# Altium footprint library NG_Integrated.PcbLib: 8 footprints
Each footprint in its own frame and in the unit in brackets; x right, y up, seen from the top. Pads: shape width x height; smd on the part's side, far side on the other; paste and mask are expansions set on the pad; w line width, h text height; cw(c..) or ccw(c..) is an arc to the next point about the centre after c.
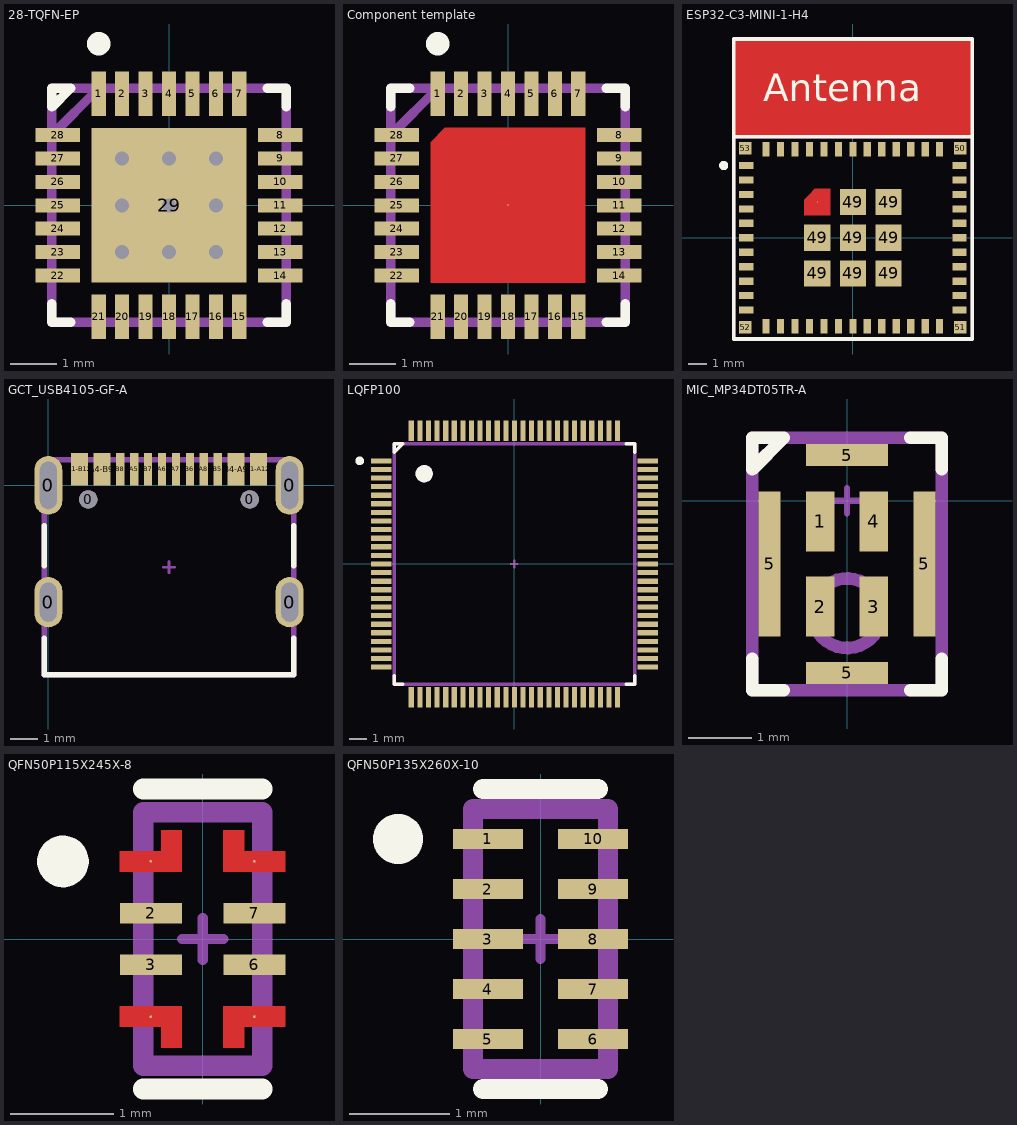
[diagram p0: the footprints below, top view; thin cyan lines are the x and y axes]

## 28-TQFN-EP [mm] "28 pin flat no-leads package with exposed pad"
height 0.8
pads (29):
  rect 0.3x0.95 smd paste-0.025: 1(-1.5,2.38) 2(-1,2.38) 3(-0.5,2.38) 4(0,2.38) 5(0.5,2.38) 6(1,2.38) 7(1.5,2.38) 15(1.5,-2.38) 16(1,-2.38) 17(0.5,-2.38) 18(0,-2.38) 19(-0.5,-2.38) 20(-1,-2.38) 21(-1.5,-2.38)
  rect 0.95x0.3 smd paste-0.025: 8(2.38,1.5) 9(2.38,1) 10(2.38,0.5) 11(2.38,0) 12(2.38,-0.5) 13(2.38,-1) 14(2.38,-1.5) 22(-2.38,-1.5) 23(-2.38,-1) 24(-2.38,-0.5) 25(-2.38,0) 26(-2.38,0.5) 27(-2.38,1) 28(-2.38,1.5)
  rect 3.3x3.3 smd paste-2539.97 mask+0.102: 29(0,0)
via 0,0 diameter 0.6 hole 0.3
via -1,0 diameter 0.6 hole 0.3
via 0,1 diameter 0.6 hole 0.3
via 0,-1 diameter 0.6 hole 0.3
via 1,1 diameter 0.6 hole 0.3
via 1,-1 diameter 0.6 hole 0.3
via -1,1 diameter 0.6 hole 0.3
via -1,-1 diameter 0.6 hole 0.3
via 1,0 diameter 0.6 hole 0.3
Top Overlay:
  circle w0.3: c-1.5,3.45 r0.1
  lines w0.2: -2.5,-2.1 -2.5,-2.5 -2.1,-2.5 ; 2.1,-2.5 2.5,-2.5 2.5,-2.1 ; 2.1,2.5 2.5,2.5 2.5,2.1 ; -2.5,2.1 -2.1,2.5 -2.5,2.5 -2.5,2.1
Top Paste:
  region: -0.025,0.025 -1.625,0.025 -1.625,1.625 -0.025,1.625
  region: -0.025,-1.625 -1.625,-1.625 -1.625,-0.025 -0.025,-0.025
  region: 1.625,-1.625 0.025,-1.625 0.025,-0.025 1.625,-0.025
  region: 1.625,0.025 0.025,0.025 0.025,1.625 1.625,1.625
Mechanical 4:
  text ".Designator" at 0.15,0.417 h0.8
Top Component Center:
  lines w0.1: -0.2,0 0.2,0 ; 0,-0.2 0,0.2
Top Component Outline:
  lines w0.2: -2.5,1.5 -1.5,2.5 ; -2.5,-2.5 2.5,-2.5 2.5,2.5 -2.5,2.5 -2.5,-2.5
3D body "21-0140L_T2855-8_MXM.step": height 0.81, standoff 0, extent -2.553,-2.553 2.553,2.553

## Component template [mm] "Generic description"
height 0.8
pads (29):
  rect 0.3x0.95 smd: 1(-1.5,2.38) 2(-1,2.38) 3(-0.5,2.38) 4(0,2.38) 5(0.5,2.38) 6(1,2.38) 7(1.5,2.38) 15(1.5,-2.38) 16(1,-2.38) 17(0.5,-2.38) 18(0,-2.38) 19(-0.5,-2.38) 20(-1,-2.38) 21(-1.5,-2.38)
  rect 0.95x0.3 smd: 8(2.38,1.5) 9(2.38,1) 10(2.38,0.5) 11(2.38,0) 12(2.38,-0.5) 13(2.38,-1) 14(2.38,-1.5) 22(-2.38,-1.5) 23(-2.38,-1) 24(-2.38,-0.5) 25(-2.38,0) 26(-2.38,0.5) 27(-2.38,1) 28(-2.38,1.5)
  round 0.025 smd: 29(0,0)
Top Layer:
  region: -1.65,-1.65 -1.65,1.35 -1.35,1.65 1.65,1.65 1.65,-1.65
Top Overlay:
  circle w0.3: c-1.5,3.45 r0.1
  lines w0.2: -2.5,-2.1 -2.5,-2.5 -2.1,-2.5 ; -2.5,2.1 -2.5,2.5 -2.1,2.5 ; 2.1,-2.5 2.5,-2.5 2.5,-2.1 ; 2.1,2.5 2.5,2.5 2.5,2.1
Mechanical 4:
  text ".Designator" at 0.15,0.417 h0.8
Top Component Center:
  lines w0.1: -0.2,0 0.2,0 ; 0,-0.2 0,0.2
Top Component Outline:
  lines w0.2: -2.5,1.5 -1.5,2.5 ; -2.5,-2.5 2.5,-2.5 2.5,2.5 -2.5,2.5 -2.5,-2.5
3D body "21-0140L_T2855-8_MXM.step": height 0.81, standoff 0, extent -2.553,-2.553 2.553,2.553

## ESP32-C3-MINI-1-H4 [mm] "Footprint for ESP32-C3-MINI-1-H4 modem"
height 2.55
pads (61):
  rect 0.8x0.4 smd: 1(-5.9,4) 2(-5.9,3.2) 3(-5.9,2.4) 4(-5.9,1.6) 5(-5.9,0.8) 6(-5.9,0) 7(-5.9,-0.8) 8(-5.9,-1.6) 9(-5.9,-2.4) 10(-5.9,-3.2) 11(-5.9,-4) 25(5.9,-4) 26(5.9,-3.2) 27(5.9,-2.4) 28(5.9,-1.6) 29(5.9,-0.8) 30(5.9,0) 31(5.9,0.8) 32(5.9,1.6) 33(5.9,2.4) 34(5.9,3.2) 35(5.9,4)
  rect 0.4x0.8 smd: 12(-4.8,-4.9) 13(-4,-4.9) 14(-3.2,-4.9) 15(-2.4,-4.9) 16(-1.6,-4.9) 17(-0.8,-4.9) 18(0,-4.9) 19(0.8,-4.9) 20(1.6,-4.9) 21(2.4,-4.9) 22(3.2,-4.9) 23(4,-4.9) 24(4.8,-4.9) 36(4.8,4.9) 37(4,4.9) 38(3.2,4.9) 39(2.4,4.9) 40(1.6,4.9) 41(0.8,4.9) 42(0,4.9) 43(-0.8,4.9) 44(-1.6,4.9) 45(-2.4,4.9) 46(-3.2,4.9) 47(-4,4.9) 48(-4.8,4.9)
  rect 1.45x1.45 smd: 49(-1.975,-1.975) 49(-1.975,0) 49(0,-1.975) 49(0,0) 49(0,1.975) 49(1.975,-1.975) 49(1.975,0) 49(1.975,1.975)
  round 0.025 smd: 49(-1.975,1.975)
  rect 0.7x0.7 smd: 50(5.95,4.95) 51(5.95,-4.95) 52(-5.95,-4.95) 53(-5.95,4.95)
Top Layer:
  pour cut-out: -6.6,5.6 6.6,5.6 6.6,11 -6.6,11
  region: -2.7,1.25 -2.7,2.1 -2.4,2.4 -2.1,2.7 -1.25,2.7 -1.25,1.25
Mid-Layer 1:
  pour cut-out: -6.6,5.6 6.6,5.6 6.6,11 -6.6,11
Mid-Layer 2:
  pour cut-out: -6.6,5.6 6.6,5.6 6.6,11 -6.6,11
Bottom Layer:
  pour cut-out: -6.6,5.6 6.6,5.6 6.6,11 -6.6,11
Top Overlay:
  circle w0.3: c-7.15,4 r0.1
  lines w0.2: -6.6,5.6 -6.6,11 6.6,11 6.6,5.6 ; -6.6,5.6 -6.6,-5.6 6.6,-5.6 6.6,5.6 ; -6.6,5.6 6.6,5.6
  text "Antenna" at -4.946,7.554 h1.52
Mechanical 4:
  text ".Designator" at 0.15,0.417 h0.8
Top Component Center:
  lines w0.1: -0.2,0 0.2,0 ; 0,-0.2 0,0.2
Top Component Outline:
  lines w0.2: -6.6,5.6 6.6,5.6 ; -6.6,-5.6 -6.6,11 6.6,11 6.6,-5.6 -6.6,-5.6
3D body "ESP32-C3-MINI-1 3D Model.STEP": height 2.4, standoff 0, extent -6.6,-5.6 6.6,11

## GCT_USB4105-GF-A [mm] "CONN USB 2.0 TYPE C"
height 3.31
pads (18):
  oval 1x1.8 hole 0.6 slot 1.4 at 90 deg: 0(0,-4.18) 0(8.64,-4.18)
  oval 1x2.1 hole 0.6 slot 1.7 at 90 deg: 0(0,0) 0(8.64,0)
  round 0.65 hole 0.65 mask+0.102: 0(1.43,-0.5) 0(7.21,-0.5)
  rect 0.6x1.15 smd: A1-B12(1.12,0.575) A4-B9(1.92,0.575) B1-A12(7.52,0.575) B4-A9(6.72,0.575)
  rect 0.3x1.15 smd: A5(3.07,0.575) A6(4.07,0.575) A7(4.57,0.575) A8(5.57,0.575) B5(6.07,0.575) B6(5.07,0.575) B7(3.57,0.575) B8(2.57,0.575)
Top Overlay:
  lines w0.2: -0.15,-5.48 -0.15,-6.78 8.79,-6.78 8.79,-5.48 ; -0.15,-2.88 -0.15,-1.45 ; 8.79,-2.88 8.79,-1.45
Mechanical 4:
  text ".Designator" at 4.47,-2.513 h0.8
Top Component Center:
  lines w0.1: 4.12,-2.93 4.52,-2.93 ; 4.32,-3.13 4.32,-2.73
Top Component Outline:
  lines w0.2: -0.15,-6.78 -0.15,0.92 8.79,0.92 8.79,-6.78 -0.15,-6.78
3D body "USB4105-GF-A-120.stp": height 3.26, standoff -1.2, extent -0.15,-6.78 8.79,0.92

## LQFP100 [mm] "Low-profile quad flat package, 100 pins"
height 1.6
pads (100):
  rect 1.2x0.3 smd: 1(-7.75,6) 2(-7.75,5.5) 3(-7.75,5) 4(-7.75,4.5) 5(-7.75,4) 6(-7.75,3.5) 7(-7.75,3) 8(-7.75,2.5) 9(-7.75,2) 10(-7.75,1.5) 11(-7.75,1) 12(-7.75,0.5) 13(-7.75,0) 14(-7.75,-0.5) 15(-7.75,-1) 16(-7.75,-1.5) 17(-7.75,-2) 18(-7.75,-2.5) 19(-7.75,-3) 20(-7.75,-3.5) 21(-7.75,-4) 22(-7.75,-4.5) 23(-7.75,-5) 24(-7.75,-5.5) 25(-7.75,-6) 51(7.75,-6) 52(7.75,-5.5) 53(7.75,-5) 54(7.75,-4.5) 55(7.75,-4) 56(7.75,-3.5) 57(7.75,-3) 58(7.75,-2.5) 59(7.75,-2) 60(7.75,-1.5) 61(7.75,-1) 62(7.75,-0.5) 63(7.75,0) 64(7.75,0.5) 65(7.75,1) 66(7.75,1.5) 67(7.75,2) 68(7.75,2.5) 69(7.75,3) 70(7.75,3.5) 71(7.75,4) 72(7.75,4.5) 73(7.75,5) 74(7.75,5.5) 75(7.75,6)
  rect 0.3x1.2 smd: 26(-6,-7.75) 27(-5.5,-7.75) 28(-5,-7.75) 29(-4.5,-7.75) 30(-4,-7.75) 31(-3.5,-7.75) 32(-3,-7.75) 33(-2.5,-7.75) 34(-2,-7.75) 35(-1.5,-7.75) 36(-1,-7.75) 37(-0.5,-7.75) 38(0,-7.75) 39(0.5,-7.75) 40(1,-7.75) 41(1.5,-7.75) 42(2,-7.75) 43(2.5,-7.75) 44(3,-7.75) 45(3.5,-7.75) 46(4,-7.75) 47(4.5,-7.75) 48(5,-7.75) 49(5.5,-7.75) 50(6,-7.75) 76(6,7.75) 77(5.5,7.75) 78(5,7.75) 79(4.5,7.75) 80(4,7.75) 81(3.5,7.75) 82(3,7.75) 83(2.5,7.75) 84(2,7.75) 85(1.5,7.75) 86(1,7.75) 87(0.5,7.75) 88(0,7.75) 89(-0.5,7.75) 90(-1,7.75) 91(-1.5,7.75) 92(-2,7.75) 93(-2.5,7.75) 94(-3,7.75) 95(-3.5,7.75) 96(-4,7.75) 97(-4.5,7.75) 98(-5,7.75) 99(-5.5,7.75) 100(-6,7.75)
Top Overlay:
  circle w0.3: c-9,6 r0.1
  circle w0.5: c-5.25,5.25 r0.25
  lines w0.2: -7,-6.5 -7,-7 -6.5,-7 ; 6.5,-7 7,-7 7,-6.5 ; 6.5,7 7,7 7,6.5 ; -7,6.5 -6.5,7 -7,7 -7,6.5
Mechanical 4:
  text ".Designator" at 0.15,0.417 h0.8
Top Component Center:
  lines w0.1: -0.2,0 0.2,0 ; 0,-0.2 0,0.2
Top Component Outline:
  circle w0.5: c-5.25,5.25 r0.25
  lines w0.2: -7,6.5 -6.5,7 ; -7,-7 -7,7 7,7 7,-7 -7,-7
3D body "LQFP100_STM.step": height 1.6, standoff 0, extent -8.103,-8.103 8.103,8.103

## MIC_MP34DT05TR-A [mm] "HCLGA 4LD  (3 x 4 x 1 mm)"
height 1
pads (8):
  rect 0.45x0.95 smd: 1(-0.425,-0.325) 2(-0.425,-1.675) 3(0.425,-1.675) 4(0.425,-0.325)
  rect 0.35x2.3 smd: 5(-1.225,-1) 5(1.225,-1)
  rect 1.3x0.35 smd: 5(0,-2.725) 5(0,0.725)
Top Overlay:
  lines w0.2: -1.5,-2.5 -1.5,-3 -1,-3 ; 1,-3 1.5,-3 1.5,-2.5 ; 1,1 1.5,1 1.5,0.5 ; -1,1 -1.5,0.5 -1.5,1 -1,1 ; -1,1 -1,1
Mechanical 4:
  text ".Designator" at 0.15,-0.583 h0.8
Top Component Center:
  lines w0.1: -0.2,0 0.2,0 ; 0,-0.2 0,0.2
Top Component Outline:
  circle w0.2: c0,-1.78 r0.55
  lines w0.2: -1.5,0.5 -1,1 ; -1,1 -1,1 ; -1.5,-3 1.5,-3 1.5,1 -1.5,1 -1.5,-3 ; 1,1 1,1 ; 1.5,0.5 1.5,0.5
3D body "MP34DT05-A.stp": height 1, standoff 0, extent -1.5,-3 1.5,1

## QFN50P115X245X-8 [mm] "Quad Flat No-lead, 50 mm pitch, 115 mm W, 245 mm L, 8 leads"
height 0.45
pads (8):
  round 0.025 smd: 1(-0.5,0.75) 4(-0.5,-0.75) 5(0.5,-0.75) 8(0.5,0.75)
  rect 0.6x0.2 smd: 2(-0.5,0.25) 3(-0.5,-0.25) 6(0.5,-0.25) 7(0.5,0.25)
Top Layer:
  region: -0.8,0.65 -0.8,0.85 -0.4,0.85 -0.4,1.05 -0.2,1.05 -0.2,0.85 -0.2,0.65
  region: -0.8,-0.65 -0.8,-0.85 -0.4,-0.85 -0.4,-1.05 -0.2,-1.05 -0.2,-0.85 -0.2,-0.65
  region: 0.8,0.65 0.8,0.85 0.4,0.85 0.4,1.05 0.2,1.05 0.2,0.85 0.2,0.65
  region: 0.8,-0.65 0.8,-0.85 0.4,-0.85 0.4,-1.05 0.2,-1.05 0.2,-0.85 0.2,-0.65
Top Overlay:
  circle w0.3: c-1.35,0.75 r0.1
  lines w0.2: -0.575,-1.45 0.575,-1.45 ; -0.575,1.45 0.575,1.45
Mechanical 4:
  text ".Designator" at 0.15,0.417 h0.8
Top Component Center:
  lines w0.1: -0.2,0 0.2,0 ; 0,-0.2 0,0.2
Top Component Outline:
  lines w0.2: -0.575,-1.225 -0.575,1.225 0.575,1.225 0.575,-1.225 -0.575,-1.225
3D body "ECMF02-4CMX8.stp": height 0.5, standoff -0.02, extent -0.6,-1.25 0.6,1.25

## QFN50P135X260X-10 [mm] "Quad Flat No-lead, 50 mm pitch, 135 mm W, 260 mm L, 10 leads"
height 0.5
pads (10):
  rect 0.7x0.2 smd: 1(-0.525,1) 2(-0.525,0.5) 3(-0.525,0) 4(-0.525,-0.5) 5(-0.525,-1) 6(0.525,-1) 7(0.525,-0.5) 8(0.525,0) 9(0.525,0.5) 10(0.525,1)
Top Overlay:
  circle w0.3: c-1.425,1 r0.1
  lines w0.2: -0.575,-1.5 0.575,-1.5 ; -0.575,1.5 0.575,1.5
Mechanical 4:
  text ".Designator" at 0.15,0.417 h0.8
Top Component Center:
  lines w0.1: -0.2,0 0.2,0 ; 0,-0.2 0,0.2
Top Component Outline:
  lines w0.2: -0.675,-1.3 -0.675,1.3 0.675,1.3 0.675,-1.3 -0.675,-1.3
3D body "ECMF04-4HSWM10.stp": height 0.51, standoff 0, extent -0.698,-1.321 0.698,1.321